# Altium schematic symbol library H4_6-port_EtherCAT_Junction_Module.SCHLIB: 60 symbols (part 2 of 2)
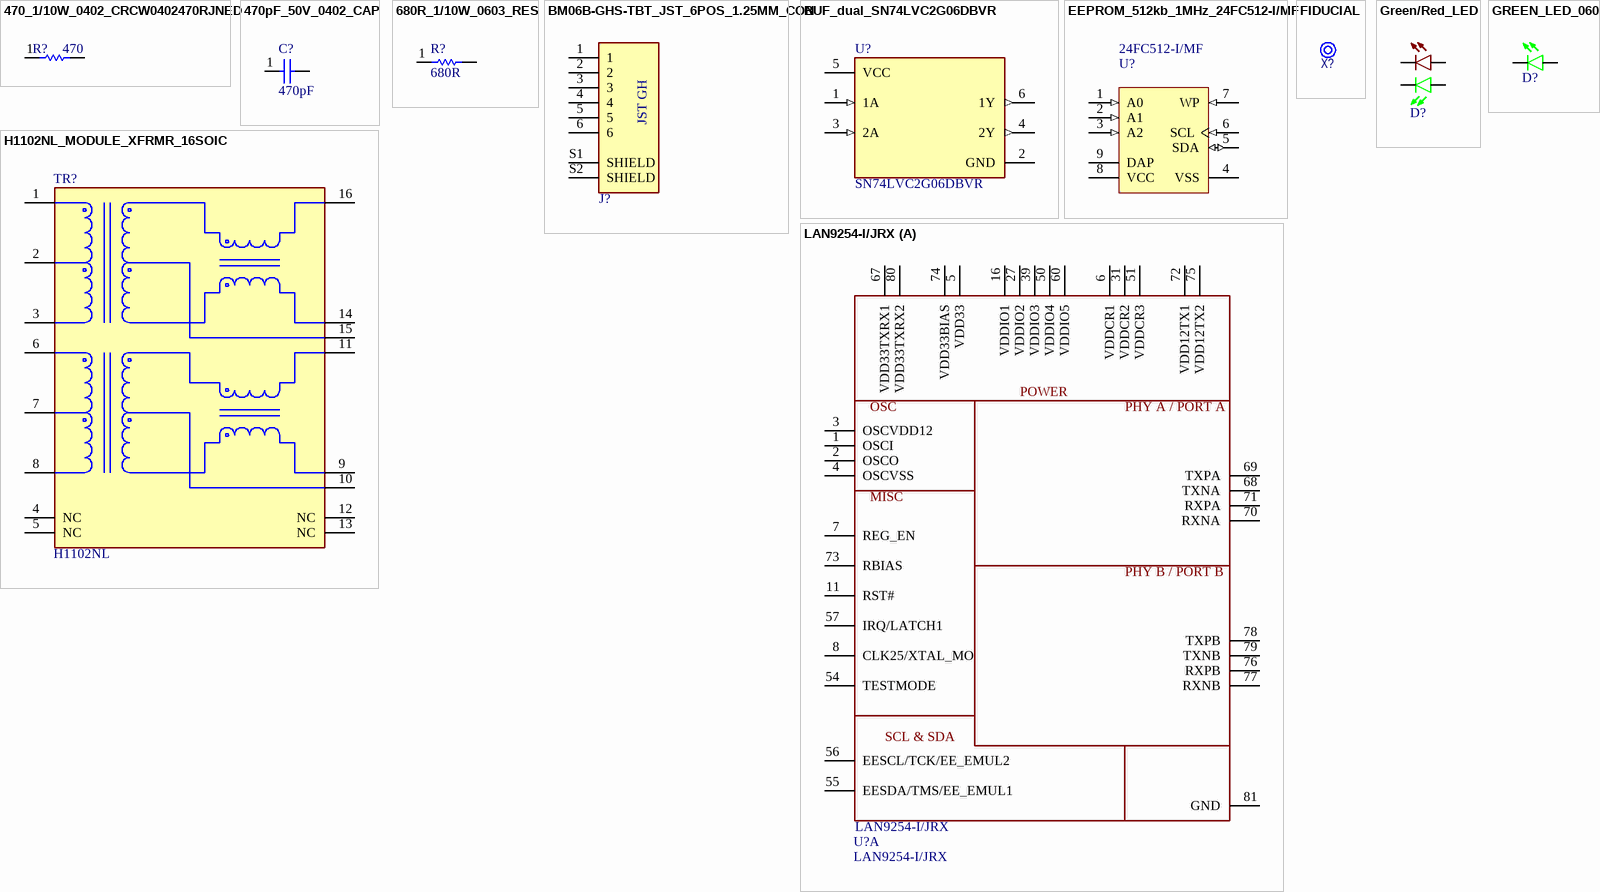
[diagram p3: symbols 470_1/10W_0402_CRCW0402470RJNED to LAN9254-I/JRX]

## H1102NL_MODULE_XFRMR_16SOIC
designator TR?, comment H1102NL
Telecom Transformer 1:1/1:1 16Term. Gull Wing SMD; Manufacturer: Pulse; Turns Ratio: 1:1; Shielding: Unshielded; Isolation Voltage: 1.5kV; Insertion Loss: -1.1dB; Return Loss: -11.5dB; DC Resistance (DCR): 650mR; Supplier 1: Digi-Key; Manufacturer Part Number: H1102NL; RoHS: Yes; Category: Transformers; Stock 1: 37327; Pricing 1: 1=5.31000, 10=4.03700, 25=3.93120, 50=3.61240, 100=3.39990, 250=3.29364, 500=3.18740, 1000=3.08116 (USD); Mount: Surface Mount; Case/Package: Module; Number of Pins: 16; Weight: 0.098767oz; Min Operating Temperature: 0°C; Max Operating Temperature: 70°C; Packaging: Rail/Tube; Package Quantity: 40; Termination: SMD/SMT; Lead/Base Style: Gull Wing; Series: -; Length: 12.7mm; Width: 9.53m; Height: 6.09mm; Height - Seated (Max): 6.22mm; Depth: 9.53mm; Radiation Hardening: No; RoHS Compliant: Yes; Lead Free: Lead Free; ComponentLink1URL: https://datasheet.ciiva.com/2938/10-100base-tsingleportsmdmagnetics-rev2008-2938779.pdf?src-supplier=Digi-Key; ComponentLink1Description: https://datasheet.ciiva.com/2938/10-100base-tsingleportsmdmagnetics-rev2008-2938779.pdf?src-supplier=Digi-Key; Supplier Part Number 1: 553-1323-5-ND
footprint FP-H1102NL-MFG
pins: 1 TD+, 2 CT, 3 TD-, 4 NC, 5 NC, 6 RD+, 7 CT, 8 RD-, 9 RX-, 10 NC, 11 RX+, 12 NC, 13 NC, 14 TX-, 15 NC, 16 TX+

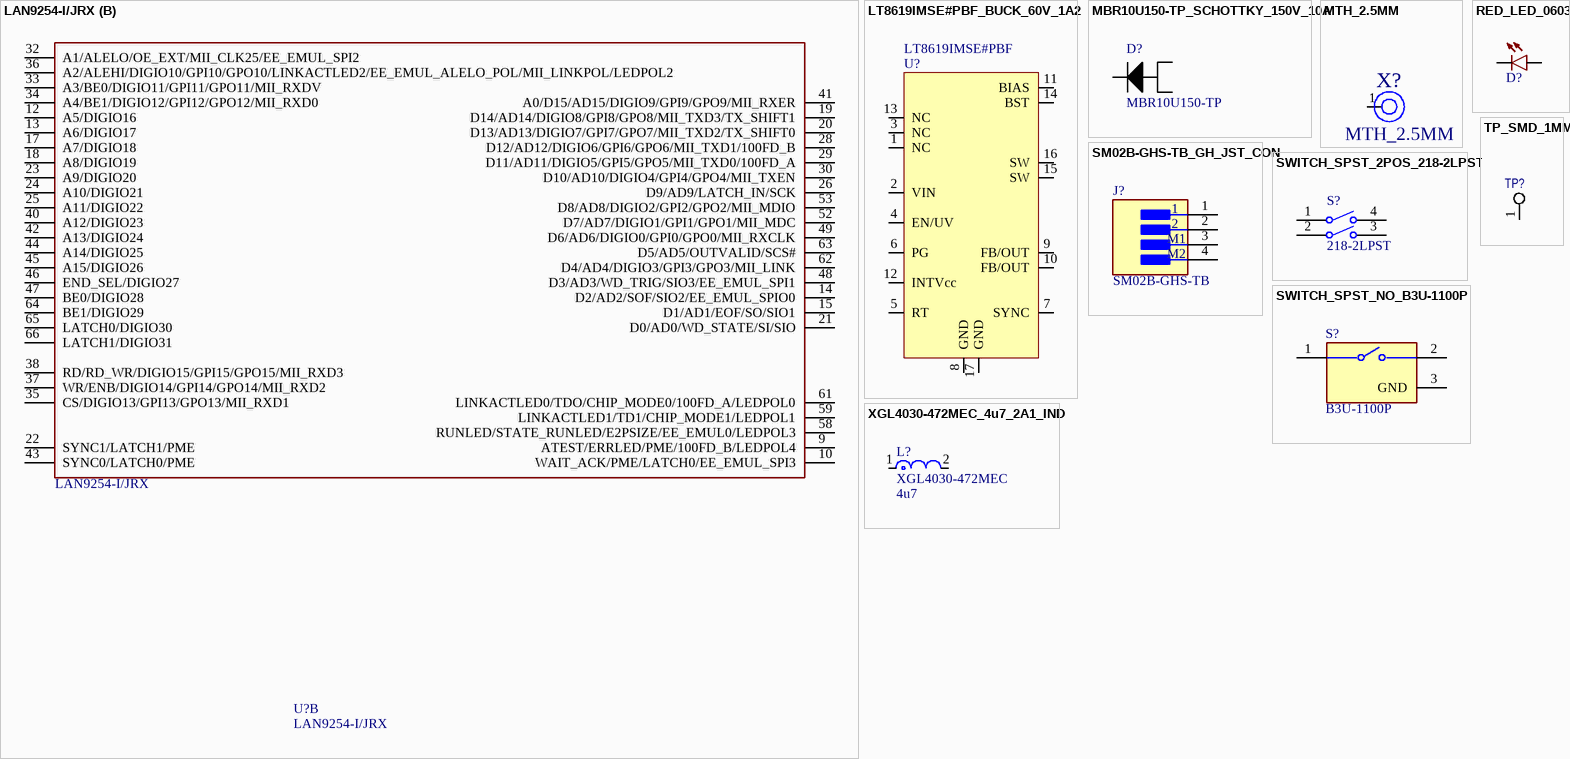
[diagram p2: symbols LAN9254-I/JRX to XGL4030-472MEC_4u7_2A1_IND]

## LAN9254-I/JRX
designator U?
2/3-PORT Ethercat Slave Controller With 32 Digios With Integrated Ethernet Phys; Manufacturer: Microchip; Supplier 1: Digi-Key; Manufacturer Part Number: LAN9254-I/JRX; RoHS: Yes; Pricing 1: 1=14.24000, 25=12.99000 (USD); RoHS Compliant: Yes; Supplier Part Number 1: 150-LAN9254-I/JRX-ND
footprint QFP50P1400X1400X120-81N
part A pins: 1 OSCI, 2 OSCO, 3 OSCVDD12, 4 OSCVSS, 5 VDD33, 6 VDDCR1, 7 REG_EN, 8 CLK25/XTAL_MO, 11 RST#, 16 VDDIO1, 27 VDDIO2, 31 VDDCR2, 39 VDDIO3, 50 VDDIO4, 51 VDDCR3, 54 TESTMODE, 55 EESDA/TMS/EE_EMUL1, 56 EESCL/TCK/EE_EMUL2, 57 IRQ/LATCH1, 60 VDDIO5, 67 VDD33TXRX1, 68 TXNA, 69 TXPA, 70 RXNA, 71 RXPA, 72 VDD12TX1, 73 RBIAS, 74 VDD33BIAS, 75 VDD12TX2, 76 RXPB, 77 RXNB, 78 TXPB, 79 TXNB, 80 VDD33TXRX2, 81 GND
part B pins: 9 ATEST/ERRLED/PME/100FD_B/LEDPOL4, 10 WAIT_ACK/PME/LATCH0/EE_EMUL_SPI3, 12 A5/DIGIO16, 13 A6/DIGIO17, 14 D2/AD2/SOF/SIO2/EE_EMUL_SPIO0, 15 D1/AD1/EOF/SO/SIO1, 17 A7/DIGIO18, 18 A8/DIGIO19, 19 D14/AD14/DIGIO8/GPI8/GPO8/MII_TXD3/TX_SHIFT1, 20 D13/AD13/DIGIO7/GPI7/GPO7/MII_TXD2/TX_SHIFT0, 21 D0/AD0/WD_STATE/SI/SIO, 22 SYNC1/LATCH1/PME, 23 A9/DIGIO20, 24 A10/DIGIO21, 25 A11/DIGIO22, 26 D9/AD9/LATCH_IN/SCK, 28 D12/AD12/DIGIO6/GPI6/GPO6/MII_TXD1/100FD_B, 29 D11/AD11/DIGIO5/GPI5/GPO5/MII_TXD0/100FD_A, 30 D10/AD10/DIGIO4/GPI4/GPO4/MII_TXEN, 32 A1/ALELO/OE_EXT/MII_CLK25/EE_EMUL_SPI2, 33 A3/BE0/DIGIO11/GPI11/GPO11/MII_RXDV, 34 A4/BE1/DIGIO12/GPI12/GPO12/MII_RXD0, 35 CS/DIGIO13/GPI13/GPO13/MII_RXD1, 36 A2/ALEHI/DIGIO10/GPI10/GPO10/LINKACTLED2/EE_EMUL_ALELO_POL/MII_LINKPOL/LEDPOL2, 37 WR/ENB/DIGIO14/GPI14/GPO14/MII_RXD2, 38 RD/RD_WR/DIGIO15/GPI15/GPO15/MII_RXD3, 40 A12/DIGIO23, 41 A0/D15/AD15/DIGIO9/GPI9/GPO9/MII_RXER, 42 A13/DIGIO24, 43 SYNC0/LATCH0/PME, 44 A14/DIGIO25, 45 A15/DIGIO26, 46 END_SEL/DIGIO27, 47 BE0/DIGIO28, 48 D3/AD3/WD_TRIG/SIO3/EE_EMUL_SPI1, 49 D6/AD6/DIGIO0/GPI0/GPO0/MII_RXCLK, 52 D7/AD7/DIGIO1/GPI1/GPO1/MII_MDC, 53 D8/AD8/DIGIO2/GPI2/GPO2/MII_MDIO, 58 RUNLED/STATE_RUNLED/E2PSIZE/EE_EMUL0/LEDPOL3, 59 LINKACTLED1/TD1/CHIP_MODE1/LEDPOL1, 61 LINKACTLED0/TDO/CHIP_MODE0/100FD_A/LEDPOL0, 62 D4/AD4/DIGIO3/GPI3/GPO3/MII_LINK, 63 D5/AD5/OUTVALID/SCS#, 64 BE1/DIGIO29, 65 LATCH0/DIGIO30, 66 LATCH1/DIGIO31
part A text: POWER; OSC; PHY A / PORT A; MISC; PHY B / PORT B; SCL & SDA

## LT8619IMSE#PBF_BUCK_60V_1A2
designator U?, comment LT8619IMSE#PBF
LT8619 - 60V, 1.2A Synchronous Monolithic Buck Regulator with 6µA Quiescent Current; Manufacturer: Analog Devices / Linear Technology; Supplier 1: Digi-Key; Manufacturer Part Number: LT8619IMSE#PBF; RoHS: Yes; Pricing 1: 1=6.38000, 10=5.76600, 25=5.49760, 100=4.77360, 250=4.55904, 500=4.17450 (USD); Number of Pins: 16; RoHS Compliant: Yes; Supplier Part Number 1: 505-LT8619IMSE#PBF-ND
footprint SOP50P490X110-17N
pins: 1 NC, 2 VIN, 3 NC, 4 EN/UV, 5 RT, 6 PG, 7 SYNC, 8 GND, 9 FB/OUT, 10 FB/OUT, 11 BIAS, 12 INTVcc, 13 NC, 14 BST, 15 SW, 16 SW, 17 GND

## MBR10U150-TP_SCHOTTKY_150V_10A
designator D?, comment MBR10U150-TP
Diode Schottky 150V 10A TO277; Manufacturer: MCC; Supplier 1: DigiKey; Manufacturer Part Number: MBR10U150-TP; Stock 1: 3846; Pricing 1: 1=0.74000, 10=0.65300, 100=0.50090, 500=0.39600, 1000=0.31680, 2000=0.28710 (USD); Supplier Part Number 1: 353-MBR10U150-TPCT-ND
footprint TO-277
pins: 1, 2, 3

## MTH_2.5MM
designator X?  (no BOM)
FORWARD_PCB: 1; PKG_TYPE: MTH_2.5MM; STATUS: NOT INSTALLED
footprint MTH-M2.5mm
footprint MTH-M2.5mm - CHASSIS
footprint MTH-M2.5mm - 3.4mm
footprint MTH-M2.5mm_5mm - CHASSIS
pins: 1

## RED_LED_0603
designator D?, comment LTST-C193KRKT-5A  (value not drawn)
LED RED CLEAR CHIP SMD; If: 5mA; Vf: 2V; MPN: LTST-C193KRKT-5A; Drawn By: TC; Supplier 1: Digi-Key; Color: Red; Supplier Part Number 1: 160-1830-1-ND
footprint LEDC1608X07N(0603) (Chip Diode, 2-Leads, Body 1.60x0.80mm, IPC Medium Density)
pins: A, C

## SM02B-GHS-TB_GH_JST_CON
designator J?, comment SM02B-GHS-TB
CONN HEADER GH SIDE 2POS 1.25MM; Manufacturer: JST; Manufacturer Part Number: SM02B-GHS-TB(LF)(SN); Number of Positions: 2; Pitch: 0.049inch; Current Rating: 1A; Voltage Rating: 50V; Connector Type: Outer Shroud Contact; Supplier 1: Digi-Key; RoHS: Yes; Category: Headers and Wire Housings; Pricing 1: 1=0.43000, 10=0.36700, 100=0.28580, 500=0.24500, 1000=0.20416 (USD); Mount: Surface Mount; Contact Plating: Tin; Contact Material: Bronze; Housing Color: Natural; Housing Material: Nylon; Color: Natural; Number of Rows: 1; Packaging: Tape and Reel; Termination: Solder; Number of Contacts: 2; Orientation: Right Angle; Fastening Type: Latch,Ramp; Series: GH; Contact Type: Male Pin; Lead Free: Lead Free; ComponentLink1URL: https://datasheet.ciiva.com/25617/0900766b810cef17-25617252.pdf?src-supplier=RSComponents; ComponentLink1Description: https://datasheet.ciiva.com/25617/0900766b810cef17-25617252.pdf?src-supplier=RSComponents; ComponentLink2URL: https://datasheet.ciiva.com/712/egh-712452.pdf?src-supplier=Digi-Key; ComponentLink2Description: https://datasheet.ciiva.com/712/egh-712452.pdf?src-supplier=Digi-Key; ComponentLink3URL: https://datasheet.ciiva.com/730/egh-730691.pdf?src-supplier=Digi-Key; ComponentLink3Description: https://datasheet.ciiva.com/730/egh-730691.pdf?src-supplier=Digi-Key; Supplier Part Number 1: 455-1564-1-ND; Package Quantity: 2500; ComponentLink4URL: https://datasheet.ciiva.com/16345/jstsm02b-ghs-tb-lf-sn-16345351.pdf?src-supplier=Future+Electronics; ComponentLink4Description: https://datasheet.ciiva.com/16345/jstsm02b-ghs-tb-lf-sn-16345351.pdf?src-supplier=Future+Electronics
footprint JST_SM02B-GHS-TB
pins: 1, 2, 3 MNT 1, 4 MNT 2
text: M1; M2

## SWITCH_SPST_2POS_218-2LPST
designator S?, comment 218-2LPST
Switch DIP ON OFF SPST 2 Recessed Slide 0.025A 24VDC Gull Wing 1000Cycles 1.27mm SMD Tube; Manufacturer: CTS; Number of Positions: 2; Current Rating: 25mA; Voltage Rating (DC): 24V; Actuator Type: Slide (Standard); Contact Resistance: 100mR; Pitch: 0.05inch; Washable: Yes; Supplier 1: Digi-Key; Manufacturer Part Number: 218-2LPST; RoHS: Yes; Category: DIP Switches; Stock 1: 18106; Pricing 1: 1=1.06000, 10=1.01800, 25=0.95640, 145=0.82628, 290=0.75300, 580=0.70009, 1015=0.65125, 4930=0.54949 (USD); Mount: Surface Mount; Contact Plating: Gold; Contact Material: Copper; Min Operating Temperature: -55°C; Max Operating Temperature: 85°C; Throw Configuration: SPST; Packaging: Rail/Tube; Electrical Life: 1000Cycles; Termination: Gull Wing; Orientation: Straight; Max Current Rating: 25mA; Package Quantity: 145; Max Voltage Rating (DC): 24V; Length: 0.146inch; Height: 2.65mm; Depth: 8.44mm; Terminal Pitch: 2.54mm; Radiation Hardening: No; RoHS Compliant: Yes; ComponentLink1URL: https://datasheet.ciiva.com/26926/getdatasheetpartid-769760-26926604.pdf?src-supplier=Verical; ComponentLink1Description: https://datasheet.ciiva.com/26926/getdatasheetpartid-769760-26926604.pdf?src-supplier=Verical; ComponentLink2URL: https://datasheet.ciiva.com/19471/859608-19471562.pdf?src-supplier=Jameco; ComponentLink2Description: https://datasheet.ciiva.com/19471/859608-19471562.pdf?src-supplier=Jameco; Supplier Part Number 1: CT2182LPST-ND
footprint CTS-218-2LPST_V (SMD, 4-Leads, Body 5.8x3.71mm, Pitch 1.27mm)
pins: 1, 2, 3, 4

## SWITCH_SPST_NO_B3U-1100P
designator S?, comment B3U-1100P
Switch Tactile N.O. SPST Round Button Gull Wing 0.05A 12VDC 1.5N SMD Embossed T/R; Manufacturer: Omron; Mechanical Life: 200000Cycles; Voltage Rating (DC): 12V; Contact Resistance: 100mR; Current Rating: 50mA; Illumination Type: Non-Illuminated,Illuminated; Switch Travel: 0.15mm; Switch Function: Off-Mom; Actuator Type: Standard; Actuator Length: 0.4mm; Ratings: Dust Proof; Supplier 1: Digi-Key; Manufacturer Part Number: B3U-1100P; RoHS: Yes; Category: Tactile Switches; Pricing 1: 1=0.96000, 10=0.92700, 25=0.86640, 100=0.75220, 250=0.68448, 500=0.63456, 1000=0.62388 (USD); Mount: Surface Mount; Weight: 0.022g; Contact Plating: Silver; Min Operating Temperature: -25°C; Max Operating Temperature: 70°C; Operating Force: 1.5N; Throw Configuration: SPST; Packaging: Tape and Reel; Max Voltage Rating (DC): 12V; Package Quantity: 1; Electrical Life: 200000Cycles; Orientation: Straight; Series: B3U; Termination: SMD/SMT; Max Current Rating: 50mA; Contact Current Rating: 50mA; Length: 3.15mm; Depth: 4mm; RoHS Compliant: Yes; REACH SVHC: Unknown; Lead Free: Lead Free; ComponentLink1URL: https://datasheet.ciiva.com/1634/60838-1634404.pdf?src-supplier=Farnell; ComponentLink1Description: https://datasheet.ciiva.com/1634/60838-1634404.pdf?src-supplier=Farnell; ComponentLink2URL: https://datasheet.ciiva.com/2901/b3u-1110-2901097.pdf?src-supplier=Digi-Key; ComponentLink2Description: https://datasheet.ciiva.com/2901/b3u-1110-2901097.pdf?src-supplier=Digi-Key; ComponentLink3URL: https://datasheet.ciiva.com/2901/b3u-1110-2901098.pdf?src-supplier=Digi-Key; ComponentLink3Description: https://datasheet.ciiva.com/2901/b3u-1110-2901098.pdf?src-supplier=Digi-Key; ComponentLink4URL: https://datasheet.ciiva.com/2901/b3u-1110-2901099.pdf?src-supplier=Digi-Key; ComponentLink4Description: https://datasheet.ciiva.com/2901/b3u-1110-2901099.pdf?src-supplier=Digi-Key; ComponentLink5URL: https://datasheet.ciiva.com/30197/en-b3u-30197271.pdf?src-supplier=Onlinecomponents.com; ComponentLink5Description: https://datasheet.ciiva.com/30197/en-b3u-30197271.pdf?src-supplier=Onlinecomponents.com; ComponentLink6URL: https://datasheet.ciiva.com/16155/en-b3u-16155023.pdf?src-supplier=Onlinecomponents.com; ComponentLink6Description: https://datasheet.ciiva.com/16155/en-b3u-16155023.pdf?src-supplier=Onlinecomponents.com; ComponentLink7URL: https://datasheet.ciiva.com/1532/60838-1532684.pdf?src-supplier=Element14; ComponentLink7Description: https://datasheet.ciiva.com/1532/60838-1532684.pdf?src-supplier=Element14; ComponentLink8URL: https://datasheet.ciiva.com/22696/60838-22696216.pdf?src-supplier=Element14; ComponentLink8Description: https://datasheet.ciiva.com/22696/60838-22696216.pdf?src-supplier=Element14; ComponentLink9URL: https://datasheet.ciiva.com/14142/b3u-eng-datasheet-14142541.pdf?src-supplier=Distrelec; ComponentLink9Description: https://datasheet.ciiva.com/14142/b3u-eng-datasheet-14142541.pdf?src-supplier=Distrelec; Supplier Part Number 1: SW1021CT-ND
footprint FP-B3U-1100P-MFSWITCH_G
pins: 1, 2, 3 GND (power)

## TP_SMD_1MM
designator TP?, comment TP_SMD  (value not drawn)  (no BOM)
Test point SMD
footprint TP_5019 (PC TEST POINT MINI SMD)
footprint Pad_1mm
footprint PAD_70X140
pins: 1 IN

## XGL4030-472MEC_4u7_2A1_IND
designator L?, comment XGL4030-472MEC  value 4u7
Inductor Power Shielded Wirewound 4.7uH 20% 1MHz Composite 6.6A 31.5mOhm DCR Automotive T/R; DCRMax: 31.5; Isat10%: 2.1; MPN: XGL4030-472
footprint FP-XGL4030-472MEC-MFG
pins: 1, 2